# EAGLE library part MCU_NRF52833-QDAA-R (library !GPLIB_ACTIVE)
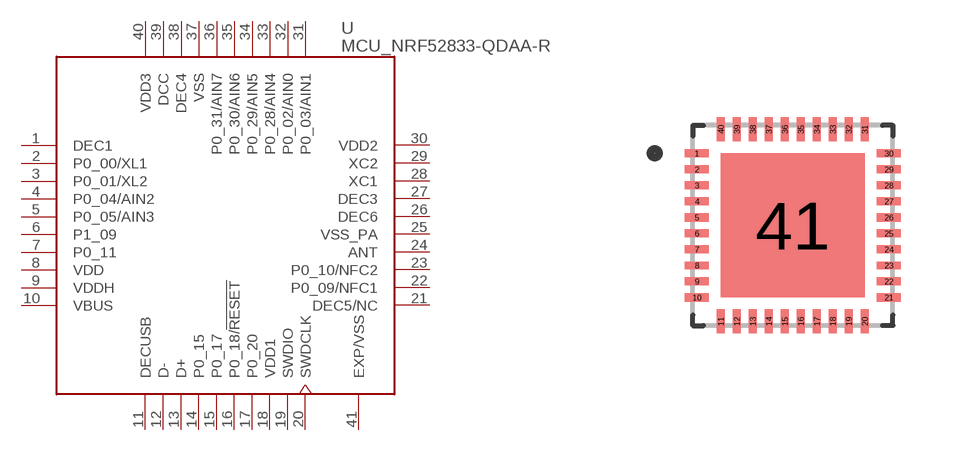
[diagram p72: symbol with the pads of QFN40P500X500X100-41N; footprint QFN40P500X500X100-41N]

Designator prefix U

## MCU_NRF52833-QDAA-R  [QFN40P500X500X100-41N]
1  DEC1  pwr
2  P0_00/XL1
3  P0_01/XL2
4  P0_04/AIN2
5  P0_05/AIN3
6  P1_09
7  P0_11
8  VDD  pwr
9  VDDH  pwr
10  VBUS  pwr
11  DECUSB  pwr
12  D-
13  D+
14  P0_15
15  P0_17
16  P0_18/!RESET
17  P0_20
18  VDD1  pwr
19  SWDIO
20  SWDCLK  in
21  DEC5/NC  pwr
22  P0_09/NFC1
23  P0_10/NFC2
24  ANT
25  VSS_PA  pwr
26  DEC6  pwr
27  DEC3  pwr
28  XC1  in
29  XC2  in
30  VDD2  pwr
31  P0_03/AIN1
32  P0_02/AIN0
33  P0_28/AIN4
34  P0_29/AIN5
35  P0_30/AIN6
36  P0_31/AIN7
37  VSS  pwr
38  DEC4  pwr
39  DCC  pwr
40  VDD3  pwr
41  EXP/VSS  pwr

## Footprint QFN40P500X500X100-41N (pad centres in mm)
smd 0.6 x 0.2: 1 -2.4,1.8; 2 -2.4,1.4; 3 -2.4,1; 4 -2.4,0.6; 5 -2.4,0.2; 6 -2.4,-0.2; 7 -2.4,-0.6; 8 -2.4,-1; 9 -2.4,-1.4; 10 -2.4,-1.8; 21 2.4,-1.8; 22 2.4,-1.4; 23 2.4,-1; 24 2.4,-0.6; 25 2.4,-0.2; 26 2.4,0.2; 27 2.4,0.6; 28 2.4,1; 29 2.4,1.4; 30 2.4,1.8
smd 0.2 x 0.6: 11 -1.8,-2.4; 12 -1.4,-2.4; 13 -1,-2.4; 14 -0.6,-2.4; 15 -0.2,-2.4; 16 0.2,-2.4; 17 0.6,-2.4; 18 1,-2.4; 19 1.4,-2.4; 20 1.8,-2.4; 31 1.8,2.4; 32 1.4,2.4; 33 1,2.4; 34 0.6,2.4; 35 0.2,2.4; 36 -0.2,2.4; 37 -0.6,2.4; 38 -1,2.4; 39 -1.4,2.4; 40 -1.8,2.4
smd 3.6 x 3.6: 41 0,0